# Altium schematic symbol library CD4043B.SchLib: 1 symbol
Pins are listed as number, name and electrical type; pins without a type are passive.

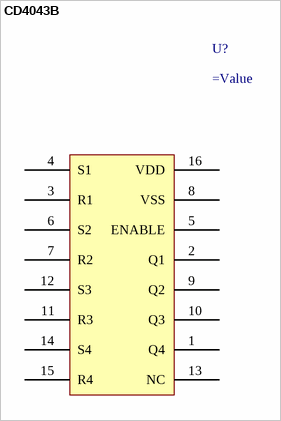
[diagram p0: symbol CD4043B]

## CD4043B
designator U?
pins: 1 Q4, 2 Q1, 3 R1, 4 S1, 5 ENABLE, 6 S2, 7 R2, 8 VSS, 9 Q2, 10 Q3, 11 R3, 12 S3, 13 NC, 14 S4, 15 R4, 16 VDD